# EAGLE library part MCP23016 (library microchip-dspic)
16-Bit I/O Expander with I2C Interface
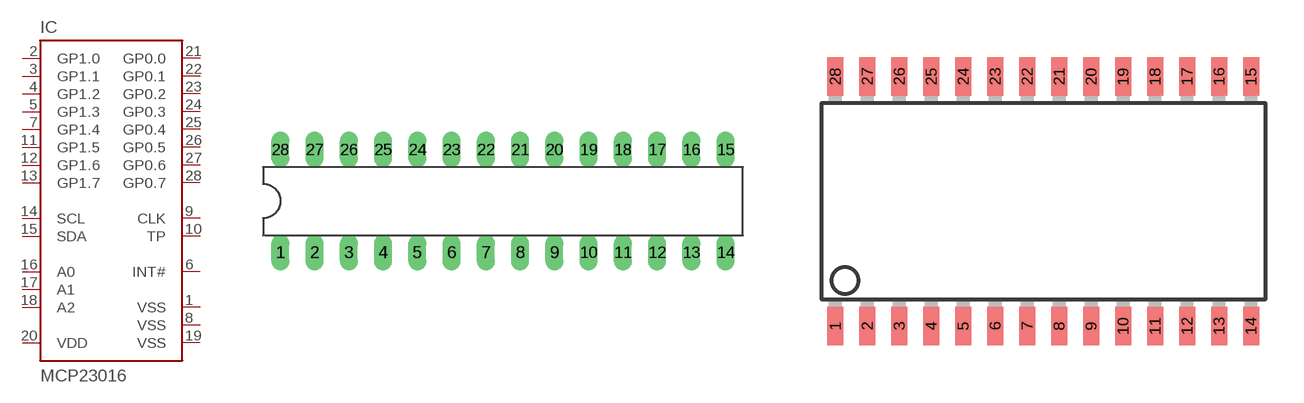
[diagram p26: symbol with the pads of DIL28-3; footprints DIL28-3, SO-28W]

Designator prefix IC

## MCP23016P  [DIL28-3]
1  VSS  pwr
2  GP1.0
3  GP1.1
4  GP1.2
5  GP1.3
6  INT#  out
7  GP1.4
8  VSS  pwr
9  CLK  in
10  TP  out
11  GP1.5
12  GP1.6
13  GP1.7
14  SCL  in
15  SDA
16  A0  in
17  A1  in
18  A2  in
19  VSS  pwr
20  VDD  pwr
21  GP0.0
22  GP0.1
23  GP0.2
24  GP0.3
25  GP0.4
26  GP0.5
27  GP0.6
28  GP0.7

## MCP23016SO  [SO-28W]
Pads as for DIL28-3

## MCP23016SS  [SSOP28]
Pads as for DIL28-3

## MCP23016ML  [QFN-S28-6X6]
1  GP1.2
2  GP1.3
3  INT#  out
4  GP1.4
5  VSS  pwr
6  CLK  in
7  TP  out
8  GP1.5
9  GP1.6
10  GP1.7
11  SCL  in
12  SDA
13  A0  in
14  A1  in
15  A2  in
16  VSS  pwr
17  VDD  pwr
18  GP0.0
19  GP0.1
20  GP0.2
21  GP0.3
22  GP0.4
23  GP0.5
24  GP0.6
25  GP0.7
26  VSS  pwr
27  GP1.0
28  GP1.1

## Footprint DIL28-3 (pad centres in mm)
Dual In Line package type P
drill 0.813 long: 1 -16.51,-3.81; 2 -13.97,-3.81; 3 -11.43,-3.81; 4 -8.89,-3.81; 5 -6.35,-3.81; 6 -3.81,-3.81; 7 -1.27,-3.81; 8 1.27,-3.81; 9 3.81,-3.81; 10 6.35,-3.81; 11 8.89,-3.81; 12 11.43,-3.81; 13 13.97,-3.81; 14 16.51,-3.81; 15 16.51,3.81; 16 13.97,3.81; 17 11.43,3.81; 18 8.89,3.81; 19 6.35,3.81; 20 3.81,3.81; 21 1.27,3.81; 22 -1.27,3.81; 23 -3.81,3.81; 24 -6.35,3.81; 25 -8.89,3.81; 26 -11.43,3.81; 27 -13.97,3.81; 28 -16.51,3.81

## Footprint SO-28W (pad centres in mm)
Small Outline Wide Plastic Gull Wing 300-mil body, package type SO
smd 0.635 x 1.524: 1 -7.62,-4.953; 2 -6.35,-4.953; 3 -5.08,-4.953; 4 -3.81,-4.953; 5 -2.54,-4.953; 6 -1.27,-4.953; 7 0,-4.953; 8 1.27,-4.953; 9 2.54,-4.953; 10 3.81,-4.953; 11 5.08,-4.953; 12 6.35,-4.953; 13 7.62,-4.953; 14 8.89,-4.953; 15 8.89,4.953; 16 7.62,4.953; 17 6.35,4.953; 18 5.08,4.953; 19 3.81,4.953; 20 2.54,4.953; 21 1.27,4.953; 22 0,4.953; 23 -1.27,4.953; 24 -2.54,4.953; 25 -3.81,4.953; 26 -5.08,4.953; 27 -6.35,4.953; 28 -7.62,4.953

## Footprint SSOP28 (pad centres in mm)
Shrink Small Outline Package package type SS
smd 0.4 x 1.5: 1 -4.225,-3.625; 2 -3.575,-3.625; 3 -2.925,-3.625; 4 -2.275,-3.625; 5 -1.625,-3.625; 6 -0.975,-3.625; 7 -0.325,-3.625; 8 0.325,-3.625; 9 0.975,-3.625; 10 1.625,-3.625; 11 2.275,-3.625; 12 2.925,-3.625; 13 3.575,-3.625; 14 4.225,-3.625; 15 4.225,3.625; 16 3.575,3.625; 17 2.925,3.625; 18 2.275,3.625; 19 1.625,3.625; 20 0.975,3.625; 21 0.325,3.625; 22 -0.325,3.625; 23 -0.975,3.625; 24 -1.625,3.625; 25 -2.275,3.625; 26 -2.925,3.625; 27 -3.575,3.625; 28 -4.225,3.625

## Footprint QFN-S28-6X6 (pad centres in mm)
Quad Flat No Lead
smd 0.6 x 0.4: 1 2.75,-1.95; 2 2.75,-1.3; 3 2.75,-0.65; 4 2.75,0; 5 2.75,0.65; 6 2.75,1.3; 7 2.75,1.95; 15 -2.75,1.95; 16 -2.75,1.3; 17 -2.75,0.65; 18 -2.75,0; 19 -2.75,-0.65; 20 -2.75,-1.3; 21 -2.75,-1.95
smd 0.4 x 0.6: 8 1.95,2.75; 9 1.3,2.75; 10 0.65,2.75; 11 0,2.75; 12 -0.65,2.75; 13 -1.3,2.75; 14 -1.95,2.75; 22 -1.95,-2.75; 23 -1.3,-2.75; 24 -0.65,-2.75; 25 0,-2.75; 26 0.65,-2.75; 27 1.3,-2.75; 28 1.95,-2.75